# EAGLE library part CD11 (library mynixies)
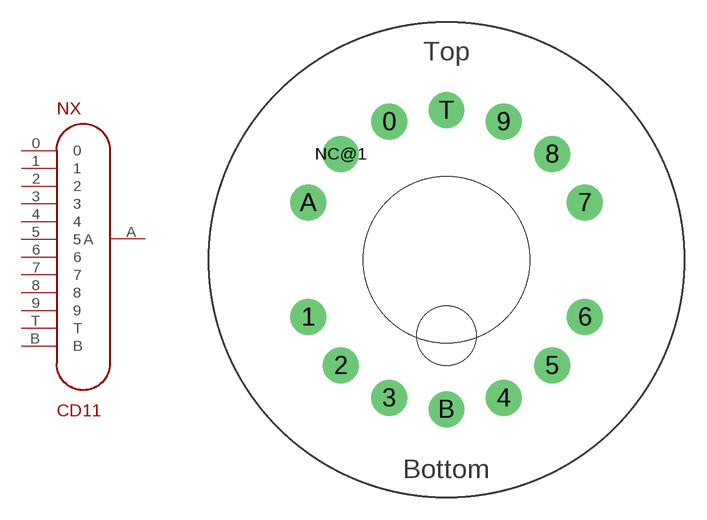
[diagram p7: symbol with the pads of CD11; footprint CD11]

Designator prefix NX

## CD11ALLPINS  [CD11]
0  0  pas
1  1  pas
2  2  pas
3  3  pas
4  4  pas
5  5  pas
6  6  pas
7  7  pas
8  8  pas
9  9  pas
A  A  pas
B  B  pas
T  T  pas

## Footprint CD11 (pad centres in mm)
drill 1.6: 0 -3.827,9.239; 1 -9.239,-3.827; 2 -7.071,-7.071; 3 -3.827,-9.239; 4 3.827,-9.239; 5 7.071,-7.071; 6 9.239,-3.827; 7 9.239,3.827; 8 7.071,7.071; 9 3.827,9.239; A -9.239,3.827; B 0,-10; NC@1 -7.071,7.071; T 0,10
hole 11.113 at 0,0
hole 3.969 at 0,-5.08